# EAGLE library part MAX1120* (library Soil Power Sensor)
Single-Channel, Ultra-Low-Power, Delta-Sigma ADC with 2-Wire Serial Interface
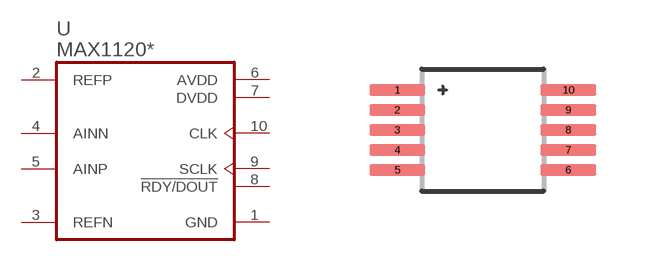
[diagram p1: symbol with the pads of SOP50P490X110-10N; footprint SOP50P490X110-10N]

Designator prefix U

## MAX11201A (AUTHOR: John Madden <jmadden173@pm.me>; BITS: 24; DATE_CREATED: 2023-04-06; DATE_MODIFIED: 2023-04-06; MFC: Analog Devices; MPN: MAX11201AEUB+; QTY: 1; REF: https://www.analog.com/en/products/max11201.html; SPS: 120), MAX11201B (AUTHOR: John Madden <jmadden173@pm.me>; BITS: 24; DATE_CREATED: 2023-04-06; DATE_MODIFIED: 2023-04-06; MFC: Analog Devices; MPN: MAX11201BEUB+T; QTY: 1; REF: https://www.analog.com/en/products/max11201.html; SPS: 13.75), MAX11208A (AUTHOR: John Madden <jmadden173@pm.me>; BITS: 20; DATE_CREATED: 2023-04-06; DATE_MODIFIED: 2023-04-06; MFC: Analog Devices; MPN: MAX11208AEUB+; QTY: 1; REF: https://www.analog.com/en/products/max11208.html#product-overview; SPS: 120), MAX11208B (AUTHOR: John Madden <jmadden173@pm.me>; BITS: 20; DATE_CREATED: 2023-04-06; DATE_MODIFIED: 2023-04-06; MFC: Analog Devices; MPN: MAX11208BEUB+; QTY: 1; REF: https://www.analog.com/en/products/max11208.html#product-overview; SPS: 13.75)  [SOP50P490X110-10N]
1  GND  pwr
2  REFP  in
3  REFN  in
4  AINN  in
5  AINP  in
6  AVDD  pwr
7  DVDD  pwr
8  !RDY/DOUT
9  SCLK  in
10  CLK  in

## Footprint SOP50P490X110-10N (pad centres in mm)
smd 1.4 x 0.28: 1 -2.14,1; 2 -2.14,0.5; 3 -2.14,0; 4 -2.14,-0.5; 5 -2.14,-1; 6 2.14,-1; 7 2.14,-0.5; 8 2.14,0; 9 2.14,0.5; 10 2.14,1